# Altium integrated library Actel ProASIC3 nano.IntLib: 200 symbols (part 13 of 16)
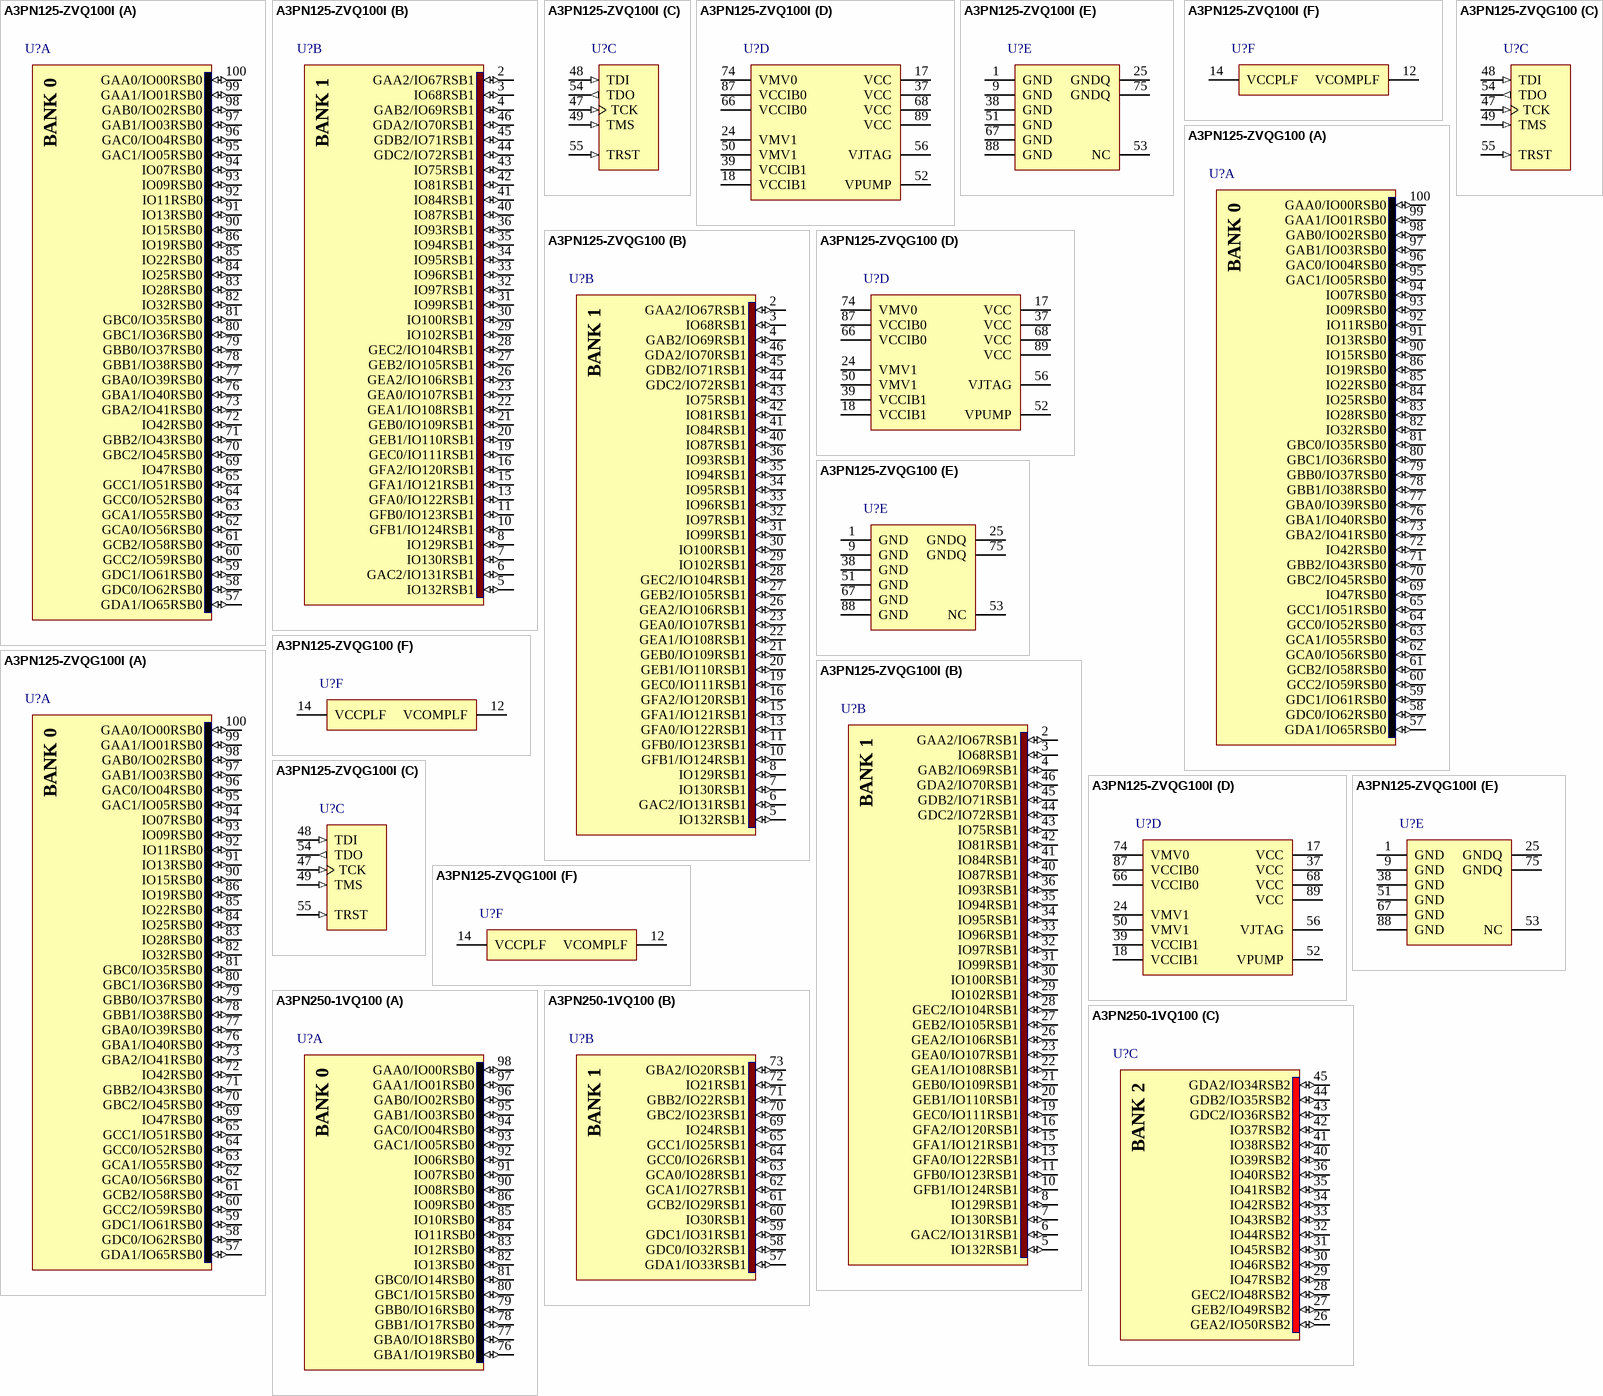
[diagram p61: symbols A3PN125-ZVQ100I to A3PN250-1VQ100]

## A3PN125-ZVQG100I
designator U?
ProASIC3 nano Flash FPGA, 71 User IOs, 125K System Gates, Z Feature Grade, Standard Speed, 100-Pin VQFP, Pb-Free, Industrial Grade; Published: 30-Apr-2009; LatestRevisionDate: 26-Feb-2010; LatestRevisionNote: Updated to datasheet version 0.6 Jan-2010.; DatasheetVersion: v0.6, Jan-2010; PackageVersion: ver11.2, Nov-2009; PackageReference: VQ100; Publisher: Altium Limited; PackageDescription: 100-Pin Plastic Quad Flat Pack (VQ100); Code_JEDEC: MS-026-AED; ComponentLink1Description: ProASIC3 Datasheet; ComponentLink1URL: http://www.actel.com/documents/PA3_nano_DS.pdf; ComponentLink2Description: Package Mechanical Drawings; ComponentLink2URL: http://www.actel.com/documents/PckgMechDrwngs.pdf; ComponentLink3Description: ProASIC3 nano Documents; ComponentLink3URL: http://www.actel.com/products/pa3nano/docs.aspx; ComponentLink4Description: Actel.com Home; ComponentLink4URL: http://www.actel.com/
footprint VQ100_N (Thin QFP, 100-Leads, Body 14x14mm, Pitch 0.5mm, IPC Medium Density)
footprint VQ100_L (Thin QFP, 100-Leads, Body 14x14mm, Pitch 0.5mm, IPC High Density)
footprint VQ100_M (Thin QFP, 100-Leads, Body 14x14mm, Pitch 0.5mm, IPC Low Density)
signal-integrity model A3PN125_VQ100 (ProASIC3 nano)
part A pins: 57 GDA1/IO65RSB0 (io) "Global Input/Output", 58 GDC0/IO62RSB0 (io) "Global Input/Output", 59 GDC1/IO61RSB0 (io) "Global Input/Output", 60 GCC2/IO59RSB0 (io) "Global Input/Output", 61 GCB2/IO58RSB0 (io) "Global Input/Output", 62 GCA0/IO56RSB0 (io) "Global Input/Output", 63 GCA1/IO55RSB0 (io) "Global Input/Output", 64 GCC0/IO52RSB0 (io) "Global Input/Output", 65 GCC1/IO51RSB0 (io) "Global Input/Output", 69 IO47RSB0 (io) "User Input/Output", 70 GBC2/IO45RSB0 (io) "Global Input/Output", 71 GBB2/IO43RSB0 (io) "Global Input/Output", 72 IO42RSB0 (io) "User Input/Output", 73 GBA2/IO41RSB0 (io) "Global Input/Output", 76 GBA1/IO40RSB0 (io) "Global Input/Output", 77 GBA0/IO39RSB0 (io) "Global Input/Output", 78 GBB1/IO38RSB0 (io) "Global Input/Output", 79 GBB0/IO37RSB0 (io) "Global Input/Output", 80 GBC1/IO36RSB0 (io) "Global Input/Output", 81 GBC0/IO35RSB0 (io) "Global Input/Output", 82 IO32RSB0 (io) "User Input/Output", 83 IO28RSB0 (io) "User Input/Output", 84 IO25RSB0 (io) "User Input/Output", 85 IO22RSB0 (io) "User Input/Output", 86 IO19RSB0 (io) "User Input/Output", 90 IO15RSB0 (io) "User Input/Output", 91 IO13RSB0 (io) "User Input/Output", 92 IO11RSB0 (io) "User Input/Output", 93 IO09RSB0 (io) "User Input/Output", 94 IO07RSB0 (io) "User Input/Output", 95 GAC1/IO05RSB0 (io) "Global Input/Output", 96 GAC0/IO04RSB0 (io) "Global Input/Output", 97 GAB1/IO03RSB0 (io) "Global Input/Output", 98 GAB0/IO02RSB0 (io) "Global Input/Output", 99 GAA1/IO01RSB0 (io) "Global Input/Output", 100 GAA0/IO00RSB0 (io) "Global Input/Output"
part B pins: 2 GAA2/IO67RSB1 (io) "Global Input/Output", 3 IO68RSB1 (io) "User Input/Output", 4 GAB2/IO69RSB1 (io) "Global Input/Output", 5 IO132RSB1 (io) "User Input/Output", 6 GAC2/IO131RSB1 (io) "Global Input/Output", 7 IO130RSB1 (io) "User Input/Output", 8 IO129RSB1 (io) "User Input/Output", 10 GFB1/IO124RSB1 (io) "Global Input/Output", 11 GFB0/IO123RSB1 (io) "Global Input/Output", 13 GFA0/IO122RSB1 (io) "Global Input/Output", 15 GFA1/IO121RSB1 (io) "Global Input/Output", 16 GFA2/IO120RSB1 (io) "Global Input/Output", 19 GEC0/IO111RSB1 (io) "Global Input/Output", 20 GEB1/IO110RSB1 (io) "Global Input/Output", 21 GEB0/IO109RSB1 (io) "Global Input/Output", 22 GEA1/IO108RSB1 (io) "Global Input/Output", 23 GEA0/IO107RSB1 (io) "Global Input/Output", 26 GEA2/IO106RSB1 (io) "Global Input/Output", 27 GEB2/IO105RSB1 (io) "Global Input/Output", 28 GEC2/IO104RSB1 (io) "Global Input/Output", 29 IO102RSB1 (io) "User Input/Output", 30 IO100RSB1 (io) "User Input/Output", 31 IO99RSB1 (io) "User Input/Output", 32 IO97RSB1 (io) "User Input/Output", 33 IO96RSB1 (io) "User Input/Output", 34 IO95RSB1 (io) "User Input/Output", 35 IO94RSB1 (io) "User Input/Output", 36 IO93RSB1 (io) "User Input/Output", 40 IO87RSB1 (io) "User Input/Output", 41 IO84RSB1 (io) "User Input/Output", 42 IO81RSB1 (io) "User Input/Output", 43 IO75RSB1 (io) "User Input/Output", 44 GDC2/IO72RSB1 (io) "Global Input/Output", 45 GDB2/IO71RSB1 (io) "Global Input/Output", 46 GDA2/IO70RSB1 (io) "Global Input/Output"
part C pins: 47 TCK (in) "Test Clock", 48 TDI (in) "Test Data Input", 49 TMS (in) "Test Mode Select", 54 TDO (out) "Test Data Output", 55 TRST (in) "Boundary Scan Reset Pin"
part D pins: 17 VCC (power) "Core Supply Voltage", 18 VCCIB1 (power) "I/O Supply Voltage", 24 VMV1 (power) "I/O Supply Voltage (quiet)", 37 VCC (power) "Core Supply Voltage", 39 VCCIB1 (power) "I/O Supply Voltage", 50 VMV1 (power) "I/O Supply Voltage (quiet)", 52 VPUMP (power) "Programming Supply Voltage", 56 VJTAG (power) "JTAG Supply Voltage", 66 VCCIB0 (power) "I/O Supply Voltage", 68 VCC (power) "Core Supply Voltage", 74 VMV0 (power) "I/O Supply Voltage (quiet)", 87 VCCIB0 (power) "I/O Supply Voltage", 89 VCC (power) "Core Supply Voltage"
part E pins: 1 GND (power) "Ground", 9 GND (power) "Ground", 25 GNDQ (power) "Ground (Quiet)", 38 GND (power) "Ground", 51 GND (power) "Ground", 53 NC "No Connect", 67 GND (power) "Ground", 75 GNDQ (power) "Ground (Quiet)", 88 GND (power) "Ground"
part F pins: 12 VCOMPLF (power) "PLL Ground", 14 VCCPLF (power) "PLL Supply Voltage"
part A text: BANK 0
part B text: BANK 1

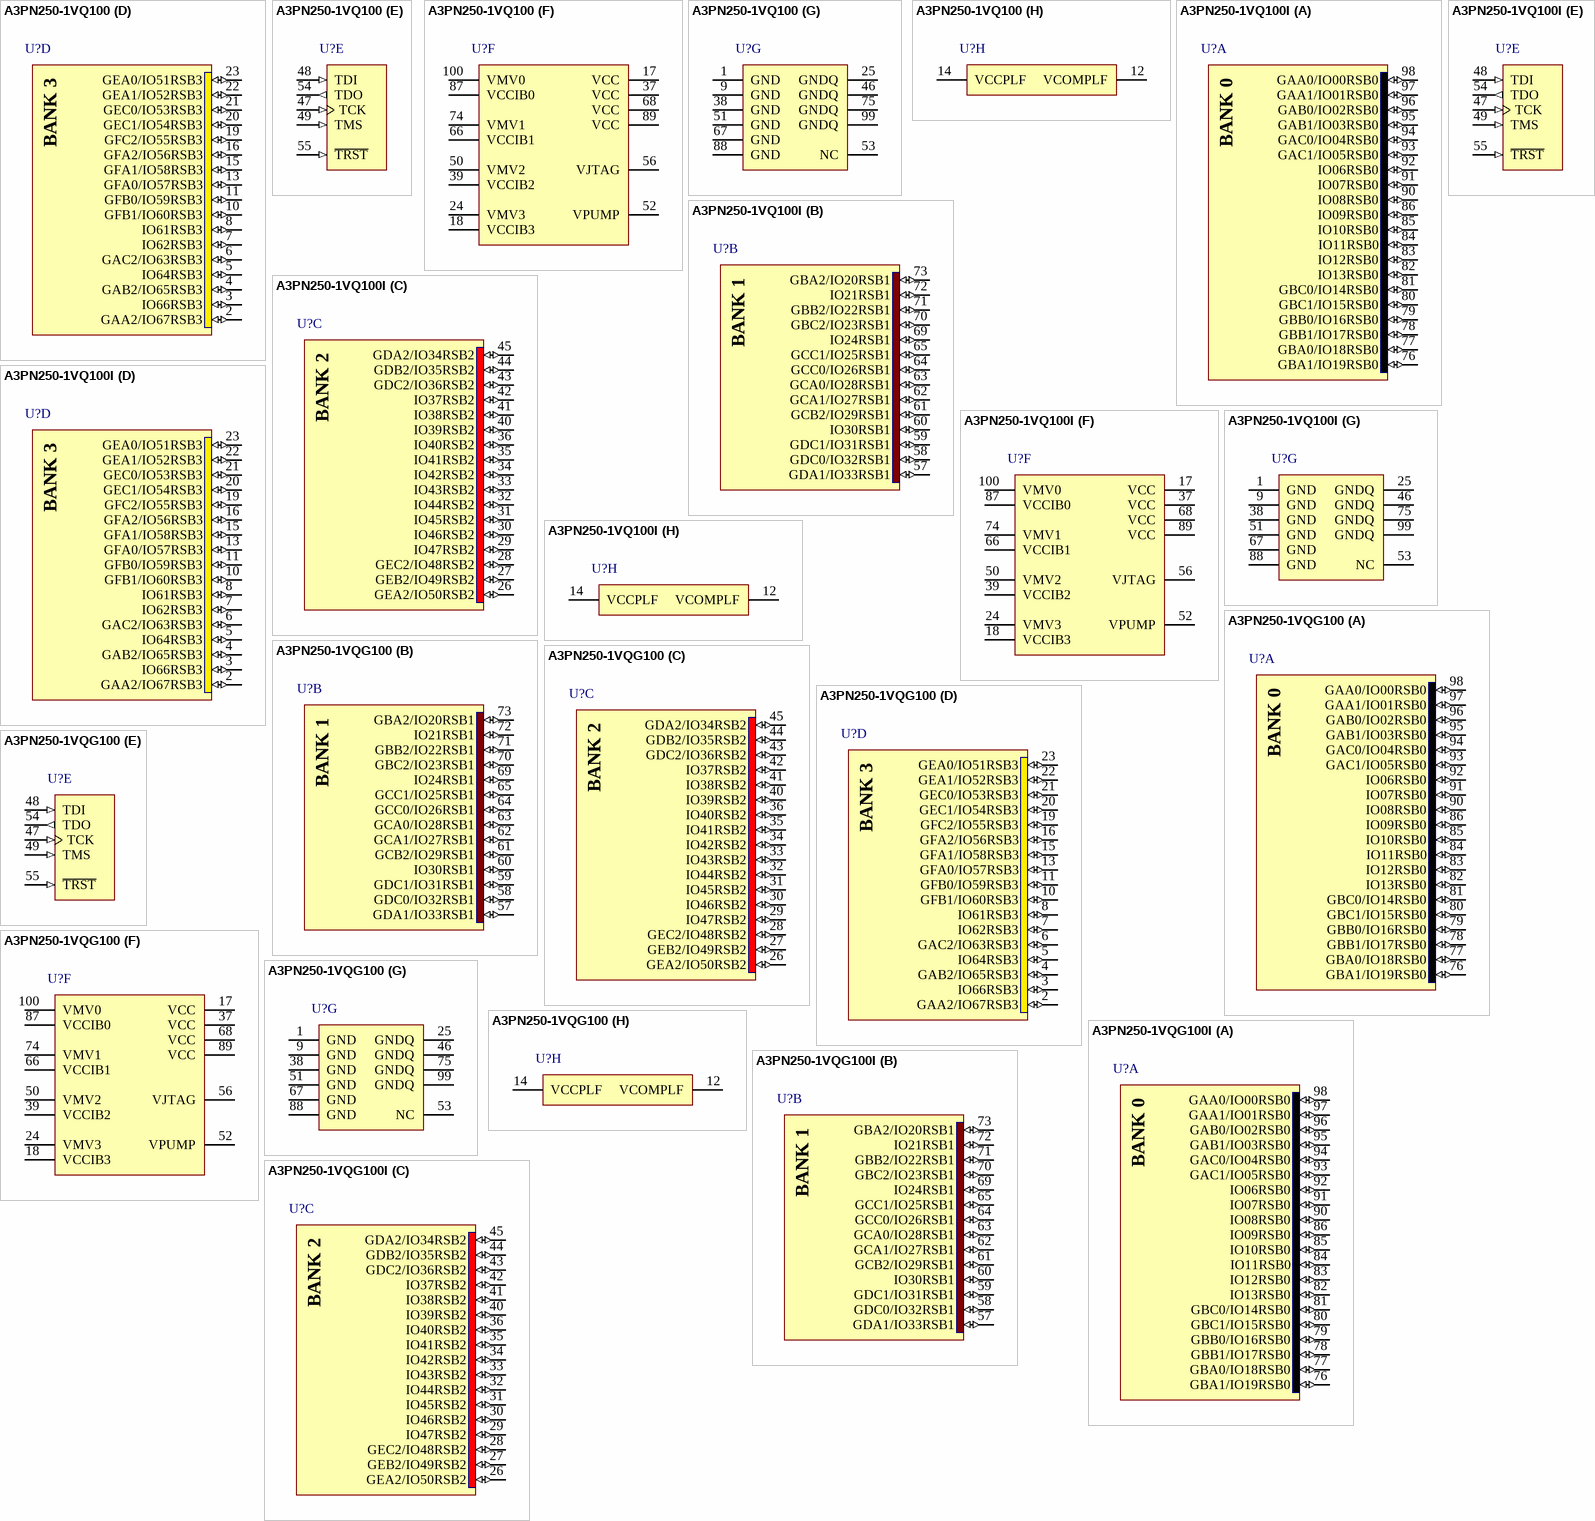
[diagram p40: symbols A3PN250-1VQ100 to A3PN250-1VQG100I]

## A3PN250-1VQ100
designator U?
ProASIC3 nano Flash FPGA, 68 User IOs, 250K System Gates, Speed 15% above Standard, 100-Pin VQFP, Commerical Grade; Published: 30-Apr-2009; LatestRevisionDate: 26-Feb-2010; LatestRevisionNote: Updated to datasheet version 0.6 Jan-2010.; DatasheetVersion: v0.6, Jan-2010; PackageVersion: ver11.2, Nov-2009; PackageReference: VQ100; Publisher: Altium Limited; PackageDescription: 100-Pin Plastic Quad Flat Pack (VQ100); Code_JEDEC: MS-026-AED; ComponentLink1Description: ProASIC3 Datasheet; ComponentLink1URL: http://www.actel.com/documents/PA3_nano_DS.pdf; ComponentLink2Description: Package Mechanical Drawings; ComponentLink2URL: http://www.actel.com/documents/PckgMechDrwngs.pdf; ComponentLink3Description: ProASIC3 nano Documents; ComponentLink3URL: http://www.actel.com/products/pa3nano/docs.aspx; ComponentLink4Description: Actel.com Home; ComponentLink4URL: http://www.actel.com/
footprint VQ100_N (Thin QFP, 100-Leads, Body 14x14mm, Pitch 0.5mm, IPC Medium Density)
footprint VQ100_L (Thin QFP, 100-Leads, Body 14x14mm, Pitch 0.5mm, IPC High Density)
footprint VQ100_M (Thin QFP, 100-Leads, Body 14x14mm, Pitch 0.5mm, IPC Low Density)
signal-integrity model A3PN250_VQ100 (ProASIC3 nano)
part A pins: 76 GBA1/IO19RSB0 (io) "Global Input/Output", 77 GBA0/IO18RSB0 (io) "Global Input/Output", 78 GBB1/IO17RSB0 (io) "Global Input/Output", 79 GBB0/IO16RSB0 (io) "Global Input/Output", 80 GBC1/IO15RSB0 (io) "Global Input/Output", 81 GBC0/IO14RSB0 (io) "Global Input/Output", 82 IO13RSB0 (io) "User Input/Output", 83 IO12RSB0 (io) "User Input/Output", 84 IO11RSB0 (io) "User Input/Output", 85 IO10RSB0 (io) "User Input/Output", 86 IO09RSB0 (io) "User Input/Output", 90 IO08RSB0 (io) "User Input/Output", 91 IO07RSB0 (io) "User Input/Output", 92 IO06RSB0 (io) "User Input/Output", 93 GAC1/IO05RSB0 (io) "Global Input/Output", 94 GAC0/IO04RSB0 (io) "Global Input/Output", 95 GAB1/IO03RSB0 (io) "Global Input/Output", 96 GAB0/IO02RSB0 (io) "Global Input/Output", 97 GAA1/IO01RSB0 (io) "Global Input/Output", 98 GAA0/IO00RSB0 (io) "Global Input/Output"
part B pins: 57 GDA1/IO33RSB1 (io) "Global Input/Output", 58 GDC0/IO32RSB1 (io) "Global Input/Output", 59 GDC1/IO31RSB1 (io) "Global Input/Output", 60 IO30RSB1 (io) "User Input/Output", 61 GCB2/IO29RSB1 (io) "Global Input/Output", 62 GCA1/IO27RSB1 (io) "Global Input/Output", 63 GCA0/IO28RSB1 (io) "Global Input/Output", 64 GCC0/IO26RSB1 (io) "Global Input/Output", 65 GCC1/IO25RSB1 (io) "Global Input/Output", 69 IO24RSB1 (io) "User Input/Output", 70 GBC2/IO23RSB1 (io) "Global Input/Output", 71 GBB2/IO22RSB1 (io) "Global Input/Output", 72 IO21RSB1 (io) "User Input/Output", 73 GBA2/IO20RSB1 (io) "Global Input/Output"
part C pins: 26 GEA2/IO50RSB2 (io) "Global Input/Output", 27 GEB2/IO49RSB2 (io) "Global Input/Output", 28 GEC2/IO48RSB2 (io) "Global Input/Output", 29 IO47RSB2 (io) "User Input/Output", 30 IO46RSB2 (io) "User Input/Output", 31 IO45RSB2 (io) "User Input/Output", 32 IO44RSB2 (io) "User Input/Output", 33 IO43RSB2 (io) "User Input/Output", 34 IO42RSB2 (io) "User Input/Output", 35 IO41RSB2 (io) "User Input/Output", 36 IO40RSB2 (io) "User Input/Output", 40 IO39RSB2 (io) "User Input/Output", 41 IO38RSB2 (io) "User Input/Output", 42 IO37RSB2 (io) "User Input/Output", 43 GDC2/IO36RSB2 (io) "Global Input/Output", 44 GDB2/IO35RSB2 (io) "Global Input/Output", 45 GDA2/IO34RSB2 (io) "Global Input/Output"
part D pins: 2 GAA2/IO67RSB3 (io) "Global Input/Output", 3 IO66RSB3 (io) "User Input/Output", 4 GAB2/IO65RSB3 (io) "Global Input/Output", 5 IO64RSB3 (io) "User Input/Output", 6 GAC2/IO63RSB3 (io) "Global Input/Output", 7 IO62RSB3 (io) "User Input/Output", 8 IO61RSB3 (io) "User Input/Output", 10 GFB1/IO60RSB3 (io) "Global Input/Output", 11 GFB0/IO59RSB3 (io) "Global Input/Output", 13 GFA0/IO57RSB3 (io) "Global Input/Output", 15 GFA1/IO58RSB3 (io) "Global Input/Output", 16 GFA2/IO56RSB3 (io) "Global Input/Output", 19 GFC2/IO55RSB3 (io) "Global Input/Output", 20 GEC1/IO54RSB3 (io) "Global Input/Output", 21 GEC0/IO53RSB3 (io) "Global Input/Output", 22 GEA1/IO52RSB3 (io) "Global Input/Output", 23 GEA0/IO51RSB3 (io) "Global Input/Output"
part E pins: 47 TCK (in) "Test Clock", 48 TDI (in) "Test Data Input", 49 TMS (in) "Test Mode Select", 54 TDO (out) "Test Data Output", 55 ~{TRST} (in) "Boundary Scan Reset Pin"
part F pins: 17 VCC (power) "Core Supply Voltage", 18 VCCIB3 (power) "I/O Supply Voltage", 24 VMV3 (power) "I/O Supply Voltage (quiet)", 37 VCC (power) "Core Supply Voltage", 39 VCCIB2 (power) "I/O Supply Voltage", 50 VMV2 (power) "I/O Supply Voltage (quiet)", 52 VPUMP (power) "Programming Supply Voltage", 56 VJTAG (power) "JTAG Supply Voltage", 66 VCCIB1 (power) "I/O Supply Voltage", 68 VCC (power) "Core Supply Voltage", 74 VMV1 (power) "I/O Supply Voltage (quiet)", 87 VCCIB0 (power) "I/O Supply Voltage", 89 VCC (power) "Core Supply Voltage", 100 VMV0 (power) "I/O Supply Voltage (quiet)"
part G pins: 1 GND (power) "Ground", 9 GND (power) "Ground", 25 GNDQ (power) "Ground (Quiet)", 38 GND (power) "Ground", 46 GNDQ (power) "Ground (Quiet)", 51 GND (power) "Ground", 53 NC "No Connect", 67 GND (power) "Ground", 75 GNDQ (power) "Ground (Quiet)", 88 GND (power) "Ground", 99 GNDQ (power) "Ground (Quiet)"
part H pins: 12 VCOMPLF (power) "PLL Ground", 14 VCCPLF (power) "PLL Supply Voltage"
part A text: BANK 0
part B text: BANK 1
part C text: BANK 2
part D text: BANK 3

## A3PN250-1VQ100I
designator U?
ProASIC3 nano Flash FPGA, 68 User IOs, 250K System Gates, Speed 15% above Standard, 100-Pin VQFP, Industrial Grade; Published: 30-Apr-2009; LatestRevisionDate: 26-Feb-2010; LatestRevisionNote: Updated to datasheet version 0.6 Jan-2010.; DatasheetVersion: v0.6, Jan-2010; PackageVersion: ver11.2, Nov-2009; PackageReference: VQ100; Publisher: Altium Limited; PackageDescription: 100-Pin Plastic Quad Flat Pack (VQ100); Code_JEDEC: MS-026-AED; ComponentLink1Description: ProASIC3 Datasheet; ComponentLink1URL: http://www.actel.com/documents/PA3_nano_DS.pdf; ComponentLink2Description: Package Mechanical Drawings; ComponentLink2URL: http://www.actel.com/documents/PckgMechDrwngs.pdf; ComponentLink3Description: ProASIC3 nano Documents; ComponentLink3URL: http://www.actel.com/products/pa3nano/docs.aspx; ComponentLink4Description: Actel.com Home; ComponentLink4URL: http://www.actel.com/
footprint VQ100_N (Thin QFP, 100-Leads, Body 14x14mm, Pitch 0.5mm, IPC Medium Density)
footprint VQ100_L (Thin QFP, 100-Leads, Body 14x14mm, Pitch 0.5mm, IPC High Density)
footprint VQ100_M (Thin QFP, 100-Leads, Body 14x14mm, Pitch 0.5mm, IPC Low Density)
signal-integrity model A3PN250_VQ100 (ProASIC3 nano)
part A pins: 76 GBA1/IO19RSB0 (io) "Global Input/Output", 77 GBA0/IO18RSB0 (io) "Global Input/Output", 78 GBB1/IO17RSB0 (io) "Global Input/Output", 79 GBB0/IO16RSB0 (io) "Global Input/Output", 80 GBC1/IO15RSB0 (io) "Global Input/Output", 81 GBC0/IO14RSB0 (io) "Global Input/Output", 82 IO13RSB0 (io) "User Input/Output", 83 IO12RSB0 (io) "User Input/Output", 84 IO11RSB0 (io) "User Input/Output", 85 IO10RSB0 (io) "User Input/Output", 86 IO09RSB0 (io) "User Input/Output", 90 IO08RSB0 (io) "User Input/Output", 91 IO07RSB0 (io) "User Input/Output", 92 IO06RSB0 (io) "User Input/Output", 93 GAC1/IO05RSB0 (io) "Global Input/Output", 94 GAC0/IO04RSB0 (io) "Global Input/Output", 95 GAB1/IO03RSB0 (io) "Global Input/Output", 96 GAB0/IO02RSB0 (io) "Global Input/Output", 97 GAA1/IO01RSB0 (io) "Global Input/Output", 98 GAA0/IO00RSB0 (io) "Global Input/Output"
part B pins: 57 GDA1/IO33RSB1 (io) "Global Input/Output", 58 GDC0/IO32RSB1 (io) "Global Input/Output", 59 GDC1/IO31RSB1 (io) "Global Input/Output", 60 IO30RSB1 (io) "User Input/Output", 61 GCB2/IO29RSB1 (io) "Global Input/Output", 62 GCA1/IO27RSB1 (io) "Global Input/Output", 63 GCA0/IO28RSB1 (io) "Global Input/Output", 64 GCC0/IO26RSB1 (io) "Global Input/Output", 65 GCC1/IO25RSB1 (io) "Global Input/Output", 69 IO24RSB1 (io) "User Input/Output", 70 GBC2/IO23RSB1 (io) "Global Input/Output", 71 GBB2/IO22RSB1 (io) "Global Input/Output", 72 IO21RSB1 (io) "User Input/Output", 73 GBA2/IO20RSB1 (io) "Global Input/Output"
part C pins: 26 GEA2/IO50RSB2 (io) "Global Input/Output", 27 GEB2/IO49RSB2 (io) "Global Input/Output", 28 GEC2/IO48RSB2 (io) "Global Input/Output", 29 IO47RSB2 (io) "User Input/Output", 30 IO46RSB2 (io) "User Input/Output", 31 IO45RSB2 (io) "User Input/Output", 32 IO44RSB2 (io) "User Input/Output", 33 IO43RSB2 (io) "User Input/Output", 34 IO42RSB2 (io) "User Input/Output", 35 IO41RSB2 (io) "User Input/Output", 36 IO40RSB2 (io) "User Input/Output", 40 IO39RSB2 (io) "User Input/Output", 41 IO38RSB2 (io) "User Input/Output", 42 IO37RSB2 (io) "User Input/Output", 43 GDC2/IO36RSB2 (io) "Global Input/Output", 44 GDB2/IO35RSB2 (io) "Global Input/Output", 45 GDA2/IO34RSB2 (io) "Global Input/Output"
part D pins: 2 GAA2/IO67RSB3 (io) "Global Input/Output", 3 IO66RSB3 (io) "User Input/Output", 4 GAB2/IO65RSB3 (io) "Global Input/Output", 5 IO64RSB3 (io) "User Input/Output", 6 GAC2/IO63RSB3 (io) "Global Input/Output", 7 IO62RSB3 (io) "User Input/Output", 8 IO61RSB3 (io) "User Input/Output", 10 GFB1/IO60RSB3 (io) "Global Input/Output", 11 GFB0/IO59RSB3 (io) "Global Input/Output", 13 GFA0/IO57RSB3 (io) "Global Input/Output", 15 GFA1/IO58RSB3 (io) "Global Input/Output", 16 GFA2/IO56RSB3 (io) "Global Input/Output", 19 GFC2/IO55RSB3 (io) "Global Input/Output", 20 GEC1/IO54RSB3 (io) "Global Input/Output", 21 GEC0/IO53RSB3 (io) "Global Input/Output", 22 GEA1/IO52RSB3 (io) "Global Input/Output", 23 GEA0/IO51RSB3 (io) "Global Input/Output"
part E pins: 47 TCK (in) "Test Clock", 48 TDI (in) "Test Data Input", 49 TMS (in) "Test Mode Select", 54 TDO (out) "Test Data Output", 55 ~{TRST} (in) "Boundary Scan Reset Pin"
part F pins: 17 VCC (power) "Core Supply Voltage", 18 VCCIB3 (power) "I/O Supply Voltage", 24 VMV3 (power) "I/O Supply Voltage (quiet)", 37 VCC (power) "Core Supply Voltage", 39 VCCIB2 (power) "I/O Supply Voltage", 50 VMV2 (power) "I/O Supply Voltage (quiet)", 52 VPUMP (power) "Programming Supply Voltage", 56 VJTAG (power) "JTAG Supply Voltage", 66 VCCIB1 (power) "I/O Supply Voltage", 68 VCC (power) "Core Supply Voltage", 74 VMV1 (power) "I/O Supply Voltage (quiet)", 87 VCCIB0 (power) "I/O Supply Voltage", 89 VCC (power) "Core Supply Voltage", 100 VMV0 (power) "I/O Supply Voltage (quiet)"
part G pins: 1 GND (power) "Ground", 9 GND (power) "Ground", 25 GNDQ (power) "Ground (Quiet)", 38 GND (power) "Ground", 46 GNDQ (power) "Ground (Quiet)", 51 GND (power) "Ground", 53 NC "No Connect", 67 GND (power) "Ground", 75 GNDQ (power) "Ground (Quiet)", 88 GND (power) "Ground", 99 GNDQ (power) "Ground (Quiet)"
part H pins: 12 VCOMPLF (power) "PLL Ground", 14 VCCPLF (power) "PLL Supply Voltage"
part A text: BANK 0
part B text: BANK 1
part C text: BANK 2
part D text: BANK 3

## A3PN250-1VQG100
designator U?
ProASIC3 nano Flash FPGA, 68 User IOs, 250K System Gates, Speed 15% above Standard, 100-Pin VQFP, Pb-Free, Commerical Grade; Published: 30-Apr-2009; LatestRevisionDate: 26-Feb-2010; LatestRevisionNote: Updated to datasheet version 0.6 Jan-2010.; DatasheetVersion: v0.6, Jan-2010; PackageVersion: ver11.2, Nov-2009; PackageReference: VQ100; Publisher: Altium Limited; PackageDescription: 100-Pin Plastic Quad Flat Pack (VQ100); Code_JEDEC: MS-026-AED; ComponentLink1Description: ProASIC3 Datasheet; ComponentLink1URL: http://www.actel.com/documents/PA3_nano_DS.pdf; ComponentLink2Description: Package Mechanical Drawings; ComponentLink2URL: http://www.actel.com/documents/PckgMechDrwngs.pdf; ComponentLink3Description: ProASIC3 nano Documents; ComponentLink3URL: http://www.actel.com/products/pa3nano/docs.aspx; ComponentLink4Description: Actel.com Home; ComponentLink4URL: http://www.actel.com/
footprint VQ100_N (Thin QFP, 100-Leads, Body 14x14mm, Pitch 0.5mm, IPC Medium Density)
footprint VQ100_L (Thin QFP, 100-Leads, Body 14x14mm, Pitch 0.5mm, IPC High Density)
footprint VQ100_M (Thin QFP, 100-Leads, Body 14x14mm, Pitch 0.5mm, IPC Low Density)
signal-integrity model A3PN250_VQ100 (ProASIC3 nano)
part A pins: 76 GBA1/IO19RSB0 (io) "Global Input/Output", 77 GBA0/IO18RSB0 (io) "Global Input/Output", 78 GBB1/IO17RSB0 (io) "Global Input/Output", 79 GBB0/IO16RSB0 (io) "Global Input/Output", 80 GBC1/IO15RSB0 (io) "Global Input/Output", 81 GBC0/IO14RSB0 (io) "Global Input/Output", 82 IO13RSB0 (io) "User Input/Output", 83 IO12RSB0 (io) "User Input/Output", 84 IO11RSB0 (io) "User Input/Output", 85 IO10RSB0 (io) "User Input/Output", 86 IO09RSB0 (io) "User Input/Output", 90 IO08RSB0 (io) "User Input/Output", 91 IO07RSB0 (io) "User Input/Output", 92 IO06RSB0 (io) "User Input/Output", 93 GAC1/IO05RSB0 (io) "Global Input/Output", 94 GAC0/IO04RSB0 (io) "Global Input/Output", 95 GAB1/IO03RSB0 (io) "Global Input/Output", 96 GAB0/IO02RSB0 (io) "Global Input/Output", 97 GAA1/IO01RSB0 (io) "Global Input/Output", 98 GAA0/IO00RSB0 (io) "Global Input/Output"
part B pins: 57 GDA1/IO33RSB1 (io) "Global Input/Output", 58 GDC0/IO32RSB1 (io) "Global Input/Output", 59 GDC1/IO31RSB1 (io) "Global Input/Output", 60 IO30RSB1 (io) "User Input/Output", 61 GCB2/IO29RSB1 (io) "Global Input/Output", 62 GCA1/IO27RSB1 (io) "Global Input/Output", 63 GCA0/IO28RSB1 (io) "Global Input/Output", 64 GCC0/IO26RSB1 (io) "Global Input/Output", 65 GCC1/IO25RSB1 (io) "Global Input/Output", 69 IO24RSB1 (io) "User Input/Output", 70 GBC2/IO23RSB1 (io) "Global Input/Output", 71 GBB2/IO22RSB1 (io) "Global Input/Output", 72 IO21RSB1 (io) "User Input/Output", 73 GBA2/IO20RSB1 (io) "Global Input/Output"
part C pins: 26 GEA2/IO50RSB2 (io) "Global Input/Output", 27 GEB2/IO49RSB2 (io) "Global Input/Output", 28 GEC2/IO48RSB2 (io) "Global Input/Output", 29 IO47RSB2 (io) "User Input/Output", 30 IO46RSB2 (io) "User Input/Output", 31 IO45RSB2 (io) "User Input/Output", 32 IO44RSB2 (io) "User Input/Output", 33 IO43RSB2 (io) "User Input/Output", 34 IO42RSB2 (io) "User Input/Output", 35 IO41RSB2 (io) "User Input/Output", 36 IO40RSB2 (io) "User Input/Output", 40 IO39RSB2 (io) "User Input/Output", 41 IO38RSB2 (io) "User Input/Output", 42 IO37RSB2 (io) "User Input/Output", 43 GDC2/IO36RSB2 (io) "Global Input/Output", 44 GDB2/IO35RSB2 (io) "Global Input/Output", 45 GDA2/IO34RSB2 (io) "Global Input/Output"
part D pins: 2 GAA2/IO67RSB3 (io) "Global Input/Output", 3 IO66RSB3 (io) "User Input/Output", 4 GAB2/IO65RSB3 (io) "Global Input/Output", 5 IO64RSB3 (io) "User Input/Output", 6 GAC2/IO63RSB3 (io) "Global Input/Output", 7 IO62RSB3 (io) "User Input/Output", 8 IO61RSB3 (io) "User Input/Output", 10 GFB1/IO60RSB3 (io) "Global Input/Output", 11 GFB0/IO59RSB3 (io) "Global Input/Output", 13 GFA0/IO57RSB3 (io) "Global Input/Output", 15 GFA1/IO58RSB3 (io) "Global Input/Output", 16 GFA2/IO56RSB3 (io) "Global Input/Output", 19 GFC2/IO55RSB3 (io) "Global Input/Output", 20 GEC1/IO54RSB3 (io) "Global Input/Output", 21 GEC0/IO53RSB3 (io) "Global Input/Output", 22 GEA1/IO52RSB3 (io) "Global Input/Output", 23 GEA0/IO51RSB3 (io) "Global Input/Output"
part E pins: 47 TCK (in) "Test Clock", 48 TDI (in) "Test Data Input", 49 TMS (in) "Test Mode Select", 54 TDO (out) "Test Data Output", 55 ~{TRST} (in) "Boundary Scan Reset Pin"
part F pins: 17 VCC (power) "Core Supply Voltage", 18 VCCIB3 (power) "I/O Supply Voltage", 24 VMV3 (power) "I/O Supply Voltage (quiet)", 37 VCC (power) "Core Supply Voltage", 39 VCCIB2 (power) "I/O Supply Voltage", 50 VMV2 (power) "I/O Supply Voltage (quiet)", 52 VPUMP (power) "Programming Supply Voltage", 56 VJTAG (power) "JTAG Supply Voltage", 66 VCCIB1 (power) "I/O Supply Voltage", 68 VCC (power) "Core Supply Voltage", 74 VMV1 (power) "I/O Supply Voltage (quiet)", 87 VCCIB0 (power) "I/O Supply Voltage", 89 VCC (power) "Core Supply Voltage", 100 VMV0 (power) "I/O Supply Voltage (quiet)"
part G pins: 1 GND (power) "Ground", 9 GND (power) "Ground", 25 GNDQ (power) "Ground (Quiet)", 38 GND (power) "Ground", 46 GNDQ (power) "Ground (Quiet)", 51 GND (power) "Ground", 53 NC "No Connect", 67 GND (power) "Ground", 75 GNDQ (power) "Ground (Quiet)", 88 GND (power) "Ground", 99 GNDQ (power) "Ground (Quiet)"
part H pins: 12 VCOMPLF (power) "PLL Ground", 14 VCCPLF (power) "PLL Supply Voltage"
part A text: BANK 0
part B text: BANK 1
part C text: BANK 2
part D text: BANK 3

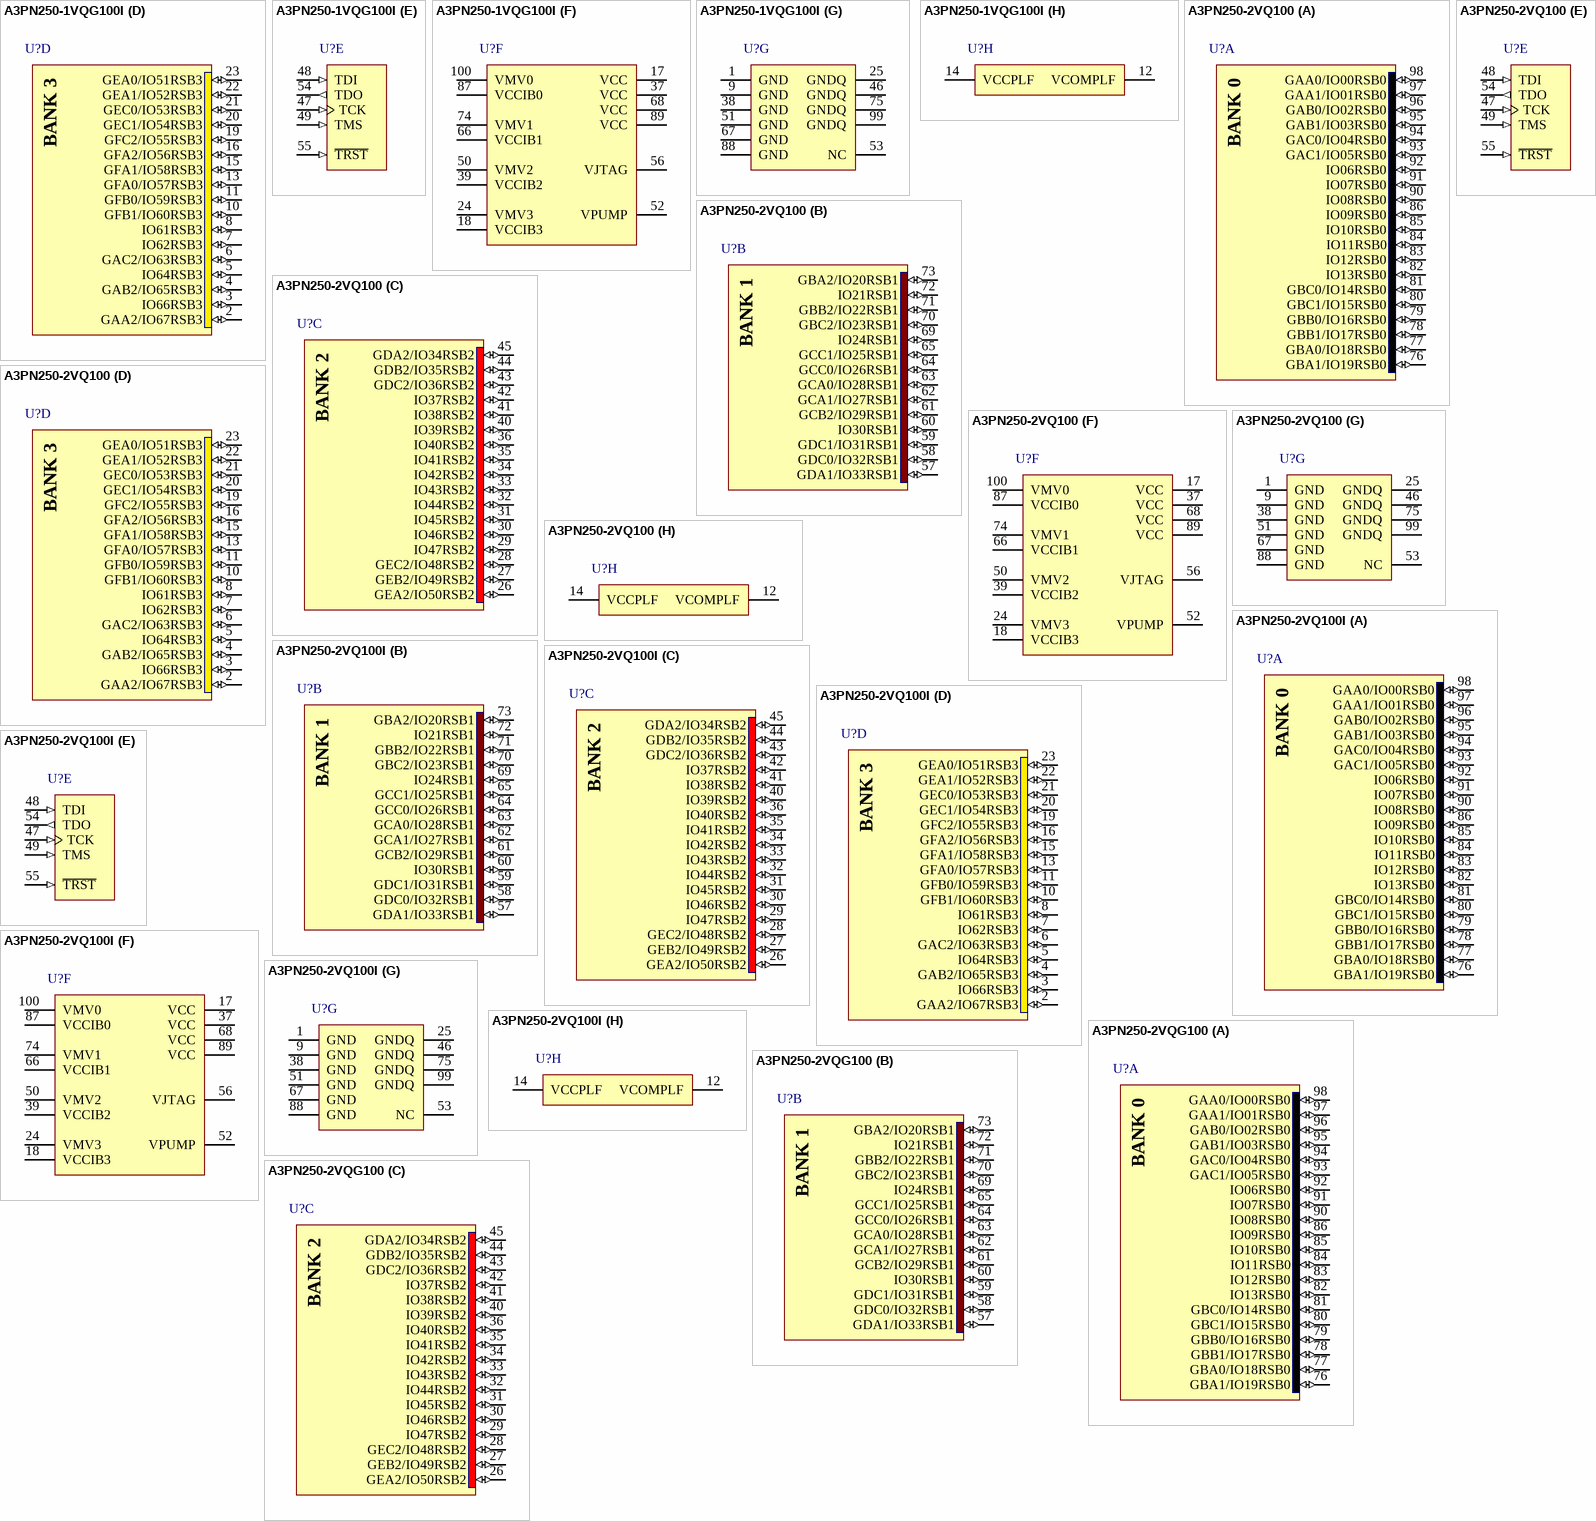
[diagram p41: symbols A3PN250-1VQG100I to A3PN250-2VQG100]

## A3PN250-1VQG100I
designator U?
ProASIC3 nano Flash FPGA, 68 User IOs, 250K System Gates, Speed 15% above Standard, 100-Pin VQFP, Pb-Free, Industrial Grade; Published: 30-Apr-2009; LatestRevisionDate: 26-Feb-2010; LatestRevisionNote: Updated to datasheet version 0.6 Jan-2010.; DatasheetVersion: v0.6, Jan-2010; PackageVersion: ver11.2, Nov-2009; PackageReference: VQ100; Publisher: Altium Limited; PackageDescription: 100-Pin Plastic Quad Flat Pack (VQ100); Code_JEDEC: MS-026-AED; ComponentLink1Description: ProASIC3 Datasheet; ComponentLink1URL: http://www.actel.com/documents/PA3_nano_DS.pdf; ComponentLink2Description: Package Mechanical Drawings; ComponentLink2URL: http://www.actel.com/documents/PckgMechDrwngs.pdf; ComponentLink3Description: ProASIC3 nano Documents; ComponentLink3URL: http://www.actel.com/products/pa3nano/docs.aspx; ComponentLink4Description: Actel.com Home; ComponentLink4URL: http://www.actel.com/
footprint VQ100_N (Thin QFP, 100-Leads, Body 14x14mm, Pitch 0.5mm, IPC Medium Density)
footprint VQ100_L (Thin QFP, 100-Leads, Body 14x14mm, Pitch 0.5mm, IPC High Density)
footprint VQ100_M (Thin QFP, 100-Leads, Body 14x14mm, Pitch 0.5mm, IPC Low Density)
signal-integrity model A3PN250_VQ100 (ProASIC3 nano)
part A pins: 76 GBA1/IO19RSB0 (io) "Global Input/Output", 77 GBA0/IO18RSB0 (io) "Global Input/Output", 78 GBB1/IO17RSB0 (io) "Global Input/Output", 79 GBB0/IO16RSB0 (io) "Global Input/Output", 80 GBC1/IO15RSB0 (io) "Global Input/Output", 81 GBC0/IO14RSB0 (io) "Global Input/Output", 82 IO13RSB0 (io) "User Input/Output", 83 IO12RSB0 (io) "User Input/Output", 84 IO11RSB0 (io) "User Input/Output", 85 IO10RSB0 (io) "User Input/Output", 86 IO09RSB0 (io) "User Input/Output", 90 IO08RSB0 (io) "User Input/Output", 91 IO07RSB0 (io) "User Input/Output", 92 IO06RSB0 (io) "User Input/Output", 93 GAC1/IO05RSB0 (io) "Global Input/Output", 94 GAC0/IO04RSB0 (io) "Global Input/Output", 95 GAB1/IO03RSB0 (io) "Global Input/Output", 96 GAB0/IO02RSB0 (io) "Global Input/Output", 97 GAA1/IO01RSB0 (io) "Global Input/Output", 98 GAA0/IO00RSB0 (io) "Global Input/Output"
part B pins: 57 GDA1/IO33RSB1 (io) "Global Input/Output", 58 GDC0/IO32RSB1 (io) "Global Input/Output", 59 GDC1/IO31RSB1 (io) "Global Input/Output", 60 IO30RSB1 (io) "User Input/Output", 61 GCB2/IO29RSB1 (io) "Global Input/Output", 62 GCA1/IO27RSB1 (io) "Global Input/Output", 63 GCA0/IO28RSB1 (io) "Global Input/Output", 64 GCC0/IO26RSB1 (io) "Global Input/Output", 65 GCC1/IO25RSB1 (io) "Global Input/Output", 69 IO24RSB1 (io) "User Input/Output", 70 GBC2/IO23RSB1 (io) "Global Input/Output", 71 GBB2/IO22RSB1 (io) "Global Input/Output", 72 IO21RSB1 (io) "User Input/Output", 73 GBA2/IO20RSB1 (io) "Global Input/Output"
part C pins: 26 GEA2/IO50RSB2 (io) "Global Input/Output", 27 GEB2/IO49RSB2 (io) "Global Input/Output", 28 GEC2/IO48RSB2 (io) "Global Input/Output", 29 IO47RSB2 (io) "User Input/Output", 30 IO46RSB2 (io) "User Input/Output", 31 IO45RSB2 (io) "User Input/Output", 32 IO44RSB2 (io) "User Input/Output", 33 IO43RSB2 (io) "User Input/Output", 34 IO42RSB2 (io) "User Input/Output", 35 IO41RSB2 (io) "User Input/Output", 36 IO40RSB2 (io) "User Input/Output", 40 IO39RSB2 (io) "User Input/Output", 41 IO38RSB2 (io) "User Input/Output", 42 IO37RSB2 (io) "User Input/Output", 43 GDC2/IO36RSB2 (io) "Global Input/Output", 44 GDB2/IO35RSB2 (io) "Global Input/Output", 45 GDA2/IO34RSB2 (io) "Global Input/Output"
part D pins: 2 GAA2/IO67RSB3 (io) "Global Input/Output", 3 IO66RSB3 (io) "User Input/Output", 4 GAB2/IO65RSB3 (io) "Global Input/Output", 5 IO64RSB3 (io) "User Input/Output", 6 GAC2/IO63RSB3 (io) "Global Input/Output", 7 IO62RSB3 (io) "User Input/Output", 8 IO61RSB3 (io) "User Input/Output", 10 GFB1/IO60RSB3 (io) "Global Input/Output", 11 GFB0/IO59RSB3 (io) "Global Input/Output", 13 GFA0/IO57RSB3 (io) "Global Input/Output", 15 GFA1/IO58RSB3 (io) "Global Input/Output", 16 GFA2/IO56RSB3 (io) "Global Input/Output", 19 GFC2/IO55RSB3 (io) "Global Input/Output", 20 GEC1/IO54RSB3 (io) "Global Input/Output", 21 GEC0/IO53RSB3 (io) "Global Input/Output", 22 GEA1/IO52RSB3 (io) "Global Input/Output", 23 GEA0/IO51RSB3 (io) "Global Input/Output"
part E pins: 47 TCK (in) "Test Clock", 48 TDI (in) "Test Data Input", 49 TMS (in) "Test Mode Select", 54 TDO (out) "Test Data Output", 55 ~{TRST} (in) "Boundary Scan Reset Pin"
part F pins: 17 VCC (power) "Core Supply Voltage", 18 VCCIB3 (power) "I/O Supply Voltage", 24 VMV3 (power) "I/O Supply Voltage (quiet)", 37 VCC (power) "Core Supply Voltage", 39 VCCIB2 (power) "I/O Supply Voltage", 50 VMV2 (power) "I/O Supply Voltage (quiet)", 52 VPUMP (power) "Programming Supply Voltage", 56 VJTAG (power) "JTAG Supply Voltage", 66 VCCIB1 (power) "I/O Supply Voltage", 68 VCC (power) "Core Supply Voltage", 74 VMV1 (power) "I/O Supply Voltage (quiet)", 87 VCCIB0 (power) "I/O Supply Voltage", 89 VCC (power) "Core Supply Voltage", 100 VMV0 (power) "I/O Supply Voltage (quiet)"
part G pins: 1 GND (power) "Ground", 9 GND (power) "Ground", 25 GNDQ (power) "Ground (Quiet)", 38 GND (power) "Ground", 46 GNDQ (power) "Ground (Quiet)", 51 GND (power) "Ground", 53 NC "No Connect", 67 GND (power) "Ground", 75 GNDQ (power) "Ground (Quiet)", 88 GND (power) "Ground", 99 GNDQ (power) "Ground (Quiet)"
part H pins: 12 VCOMPLF (power) "PLL Ground", 14 VCCPLF (power) "PLL Supply Voltage"
part A text: BANK 0
part B text: BANK 1
part C text: BANK 2
part D text: BANK 3

## A3PN250-2VQ100
designator U?
ProASIC3 nano Flash FPGA, 68 User IOs, 250K System Gates, Speed 25% above Standard, 100-Pin VQFP, Commerical Grade; Published: 30-Apr-2009; LatestRevisionDate: 26-Feb-2010; LatestRevisionNote: Updated to datasheet version 0.6 Jan-2010.; DatasheetVersion: v0.6, Jan-2010; PackageVersion: ver11.2, Nov-2009; PackageReference: VQ100; Publisher: Altium Limited; PackageDescription: 100-Pin Plastic Quad Flat Pack (VQ100); Code_JEDEC: MS-026-AED; ComponentLink1Description: ProASIC3 Datasheet; ComponentLink1URL: http://www.actel.com/documents/PA3_nano_DS.pdf; ComponentLink2Description: Package Mechanical Drawings; ComponentLink2URL: http://www.actel.com/documents/PckgMechDrwngs.pdf; ComponentLink3Description: ProASIC3 nano Documents; ComponentLink3URL: http://www.actel.com/products/pa3nano/docs.aspx; ComponentLink4Description: Actel.com Home; ComponentLink4URL: http://www.actel.com/
footprint VQ100_N (Thin QFP, 100-Leads, Body 14x14mm, Pitch 0.5mm, IPC Medium Density)
footprint VQ100_L (Thin QFP, 100-Leads, Body 14x14mm, Pitch 0.5mm, IPC High Density)
footprint VQ100_M (Thin QFP, 100-Leads, Body 14x14mm, Pitch 0.5mm, IPC Low Density)
signal-integrity model A3PN250_VQ100 (ProASIC3 nano)
part A pins: 76 GBA1/IO19RSB0 (io) "Global Input/Output", 77 GBA0/IO18RSB0 (io) "Global Input/Output", 78 GBB1/IO17RSB0 (io) "Global Input/Output", 79 GBB0/IO16RSB0 (io) "Global Input/Output", 80 GBC1/IO15RSB0 (io) "Global Input/Output", 81 GBC0/IO14RSB0 (io) "Global Input/Output", 82 IO13RSB0 (io) "User Input/Output", 83 IO12RSB0 (io) "User Input/Output", 84 IO11RSB0 (io) "User Input/Output", 85 IO10RSB0 (io) "User Input/Output", 86 IO09RSB0 (io) "User Input/Output", 90 IO08RSB0 (io) "User Input/Output", 91 IO07RSB0 (io) "User Input/Output", 92 IO06RSB0 (io) "User Input/Output", 93 GAC1/IO05RSB0 (io) "Global Input/Output", 94 GAC0/IO04RSB0 (io) "Global Input/Output", 95 GAB1/IO03RSB0 (io) "Global Input/Output", 96 GAB0/IO02RSB0 (io) "Global Input/Output", 97 GAA1/IO01RSB0 (io) "Global Input/Output", 98 GAA0/IO00RSB0 (io) "Global Input/Output"
part B pins: 57 GDA1/IO33RSB1 (io) "Global Input/Output", 58 GDC0/IO32RSB1 (io) "Global Input/Output", 59 GDC1/IO31RSB1 (io) "Global Input/Output", 60 IO30RSB1 (io) "User Input/Output", 61 GCB2/IO29RSB1 (io) "Global Input/Output", 62 GCA1/IO27RSB1 (io) "Global Input/Output", 63 GCA0/IO28RSB1 (io) "Global Input/Output", 64 GCC0/IO26RSB1 (io) "Global Input/Output", 65 GCC1/IO25RSB1 (io) "Global Input/Output", 69 IO24RSB1 (io) "User Input/Output", 70 GBC2/IO23RSB1 (io) "Global Input/Output", 71 GBB2/IO22RSB1 (io) "Global Input/Output", 72 IO21RSB1 (io) "User Input/Output", 73 GBA2/IO20RSB1 (io) "Global Input/Output"
part C pins: 26 GEA2/IO50RSB2 (io) "Global Input/Output", 27 GEB2/IO49RSB2 (io) "Global Input/Output", 28 GEC2/IO48RSB2 (io) "Global Input/Output", 29 IO47RSB2 (io) "User Input/Output", 30 IO46RSB2 (io) "User Input/Output", 31 IO45RSB2 (io) "User Input/Output", 32 IO44RSB2 (io) "User Input/Output", 33 IO43RSB2 (io) "User Input/Output", 34 IO42RSB2 (io) "User Input/Output", 35 IO41RSB2 (io) "User Input/Output", 36 IO40RSB2 (io) "User Input/Output", 40 IO39RSB2 (io) "User Input/Output", 41 IO38RSB2 (io) "User Input/Output", 42 IO37RSB2 (io) "User Input/Output", 43 GDC2/IO36RSB2 (io) "Global Input/Output", 44 GDB2/IO35RSB2 (io) "Global Input/Output", 45 GDA2/IO34RSB2 (io) "Global Input/Output"
part D pins: 2 GAA2/IO67RSB3 (io) "Global Input/Output", 3 IO66RSB3 (io) "User Input/Output", 4 GAB2/IO65RSB3 (io) "Global Input/Output", 5 IO64RSB3 (io) "User Input/Output", 6 GAC2/IO63RSB3 (io) "Global Input/Output", 7 IO62RSB3 (io) "User Input/Output", 8 IO61RSB3 (io) "User Input/Output", 10 GFB1/IO60RSB3 (io) "Global Input/Output", 11 GFB0/IO59RSB3 (io) "Global Input/Output", 13 GFA0/IO57RSB3 (io) "Global Input/Output", 15 GFA1/IO58RSB3 (io) "Global Input/Output", 16 GFA2/IO56RSB3 (io) "Global Input/Output", 19 GFC2/IO55RSB3 (io) "Global Input/Output", 20 GEC1/IO54RSB3 (io) "Global Input/Output", 21 GEC0/IO53RSB3 (io) "Global Input/Output", 22 GEA1/IO52RSB3 (io) "Global Input/Output", 23 GEA0/IO51RSB3 (io) "Global Input/Output"
part E pins: 47 TCK (in) "Test Clock", 48 TDI (in) "Test Data Input", 49 TMS (in) "Test Mode Select", 54 TDO (out) "Test Data Output", 55 ~{TRST} (in) "Boundary Scan Reset Pin"
part F pins: 17 VCC (power) "Core Supply Voltage", 18 VCCIB3 (power) "I/O Supply Voltage", 24 VMV3 (power) "I/O Supply Voltage (quiet)", 37 VCC (power) "Core Supply Voltage", 39 VCCIB2 (power) "I/O Supply Voltage", 50 VMV2 (power) "I/O Supply Voltage (quiet)", 52 VPUMP (power) "Programming Supply Voltage", 56 VJTAG (power) "JTAG Supply Voltage", 66 VCCIB1 (power) "I/O Supply Voltage", 68 VCC (power) "Core Supply Voltage", 74 VMV1 (power) "I/O Supply Voltage (quiet)", 87 VCCIB0 (power) "I/O Supply Voltage", 89 VCC (power) "Core Supply Voltage", 100 VMV0 (power) "I/O Supply Voltage (quiet)"
part G pins: 1 GND (power) "Ground", 9 GND (power) "Ground", 25 GNDQ (power) "Ground (Quiet)", 38 GND (power) "Ground", 46 GNDQ (power) "Ground (Quiet)", 51 GND (power) "Ground", 53 NC "No Connect", 67 GND (power) "Ground", 75 GNDQ (power) "Ground (Quiet)", 88 GND (power) "Ground", 99 GNDQ (power) "Ground (Quiet)"
part H pins: 12 VCOMPLF (power) "PLL Ground", 14 VCCPLF (power) "PLL Supply Voltage"
part A text: BANK 0
part B text: BANK 1
part C text: BANK 2
part D text: BANK 3

## A3PN250-2VQ100I
designator U?
ProASIC3 nano Flash FPGA, 68 User IOs, 250K System Gates, Speed 25% above Standard, 100-Pin VQFP, Industrial Grade; Published: 30-Apr-2009; LatestRevisionDate: 26-Feb-2010; LatestRevisionNote: Updated to datasheet version 0.6 Jan-2010.; DatasheetVersion: v0.6, Jan-2010; PackageVersion: ver11.2, Nov-2009; PackageReference: VQ100; Publisher: Altium Limited; PackageDescription: 100-Pin Plastic Quad Flat Pack (VQ100); Code_JEDEC: MS-026-AED; ComponentLink1Description: ProASIC3 Datasheet; ComponentLink1URL: http://www.actel.com/documents/PA3_nano_DS.pdf; ComponentLink2Description: Package Mechanical Drawings; ComponentLink2URL: http://www.actel.com/documents/PckgMechDrwngs.pdf; ComponentLink3Description: ProASIC3 nano Documents; ComponentLink3URL: http://www.actel.com/products/pa3nano/docs.aspx; ComponentLink4Description: Actel.com Home; ComponentLink4URL: http://www.actel.com/
footprint VQ100_N (Thin QFP, 100-Leads, Body 14x14mm, Pitch 0.5mm, IPC Medium Density)
footprint VQ100_L (Thin QFP, 100-Leads, Body 14x14mm, Pitch 0.5mm, IPC High Density)
footprint VQ100_M (Thin QFP, 100-Leads, Body 14x14mm, Pitch 0.5mm, IPC Low Density)
signal-integrity model A3PN250_VQ100 (ProASIC3 nano)
part A pins: 76 GBA1/IO19RSB0 (io) "Global Input/Output", 77 GBA0/IO18RSB0 (io) "Global Input/Output", 78 GBB1/IO17RSB0 (io) "Global Input/Output", 79 GBB0/IO16RSB0 (io) "Global Input/Output", 80 GBC1/IO15RSB0 (io) "Global Input/Output", 81 GBC0/IO14RSB0 (io) "Global Input/Output", 82 IO13RSB0 (io) "User Input/Output", 83 IO12RSB0 (io) "User Input/Output", 84 IO11RSB0 (io) "User Input/Output", 85 IO10RSB0 (io) "User Input/Output", 86 IO09RSB0 (io) "User Input/Output", 90 IO08RSB0 (io) "User Input/Output", 91 IO07RSB0 (io) "User Input/Output", 92 IO06RSB0 (io) "User Input/Output", 93 GAC1/IO05RSB0 (io) "Global Input/Output", 94 GAC0/IO04RSB0 (io) "Global Input/Output", 95 GAB1/IO03RSB0 (io) "Global Input/Output", 96 GAB0/IO02RSB0 (io) "Global Input/Output", 97 GAA1/IO01RSB0 (io) "Global Input/Output", 98 GAA0/IO00RSB0 (io) "Global Input/Output"
part B pins: 57 GDA1/IO33RSB1 (io) "Global Input/Output", 58 GDC0/IO32RSB1 (io) "Global Input/Output", 59 GDC1/IO31RSB1 (io) "Global Input/Output", 60 IO30RSB1 (io) "User Input/Output", 61 GCB2/IO29RSB1 (io) "Global Input/Output", 62 GCA1/IO27RSB1 (io) "Global Input/Output", 63 GCA0/IO28RSB1 (io) "Global Input/Output", 64 GCC0/IO26RSB1 (io) "Global Input/Output", 65 GCC1/IO25RSB1 (io) "Global Input/Output", 69 IO24RSB1 (io) "User Input/Output", 70 GBC2/IO23RSB1 (io) "Global Input/Output", 71 GBB2/IO22RSB1 (io) "Global Input/Output", 72 IO21RSB1 (io) "User Input/Output", 73 GBA2/IO20RSB1 (io) "Global Input/Output"
part C pins: 26 GEA2/IO50RSB2 (io) "Global Input/Output", 27 GEB2/IO49RSB2 (io) "Global Input/Output", 28 GEC2/IO48RSB2 (io) "Global Input/Output", 29 IO47RSB2 (io) "User Input/Output", 30 IO46RSB2 (io) "User Input/Output", 31 IO45RSB2 (io) "User Input/Output", 32 IO44RSB2 (io) "User Input/Output", 33 IO43RSB2 (io) "User Input/Output", 34 IO42RSB2 (io) "User Input/Output", 35 IO41RSB2 (io) "User Input/Output", 36 IO40RSB2 (io) "User Input/Output", 40 IO39RSB2 (io) "User Input/Output", 41 IO38RSB2 (io) "User Input/Output", 42 IO37RSB2 (io) "User Input/Output", 43 GDC2/IO36RSB2 (io) "Global Input/Output", 44 GDB2/IO35RSB2 (io) "Global Input/Output", 45 GDA2/IO34RSB2 (io) "Global Input/Output"
part D pins: 2 GAA2/IO67RSB3 (io) "Global Input/Output", 3 IO66RSB3 (io) "User Input/Output", 4 GAB2/IO65RSB3 (io) "Global Input/Output", 5 IO64RSB3 (io) "User Input/Output", 6 GAC2/IO63RSB3 (io) "Global Input/Output", 7 IO62RSB3 (io) "User Input/Output", 8 IO61RSB3 (io) "User Input/Output", 10 GFB1/IO60RSB3 (io) "Global Input/Output", 11 GFB0/IO59RSB3 (io) "Global Input/Output", 13 GFA0/IO57RSB3 (io) "Global Input/Output", 15 GFA1/IO58RSB3 (io) "Global Input/Output", 16 GFA2/IO56RSB3 (io) "Global Input/Output", 19 GFC2/IO55RSB3 (io) "Global Input/Output", 20 GEC1/IO54RSB3 (io) "Global Input/Output", 21 GEC0/IO53RSB3 (io) "Global Input/Output", 22 GEA1/IO52RSB3 (io) "Global Input/Output", 23 GEA0/IO51RSB3 (io) "Global Input/Output"
part E pins: 47 TCK (in) "Test Clock", 48 TDI (in) "Test Data Input", 49 TMS (in) "Test Mode Select", 54 TDO (out) "Test Data Output", 55 ~{TRST} (in) "Boundary Scan Reset Pin"
part F pins: 17 VCC (power) "Core Supply Voltage", 18 VCCIB3 (power) "I/O Supply Voltage", 24 VMV3 (power) "I/O Supply Voltage (quiet)", 37 VCC (power) "Core Supply Voltage", 39 VCCIB2 (power) "I/O Supply Voltage", 50 VMV2 (power) "I/O Supply Voltage (quiet)", 52 VPUMP (power) "Programming Supply Voltage", 56 VJTAG (power) "JTAG Supply Voltage", 66 VCCIB1 (power) "I/O Supply Voltage", 68 VCC (power) "Core Supply Voltage", 74 VMV1 (power) "I/O Supply Voltage (quiet)", 87 VCCIB0 (power) "I/O Supply Voltage", 89 VCC (power) "Core Supply Voltage", 100 VMV0 (power) "I/O Supply Voltage (quiet)"
part G pins: 1 GND (power) "Ground", 9 GND (power) "Ground", 25 GNDQ (power) "Ground (Quiet)", 38 GND (power) "Ground", 46 GNDQ (power) "Ground (Quiet)", 51 GND (power) "Ground", 53 NC "No Connect", 67 GND (power) "Ground", 75 GNDQ (power) "Ground (Quiet)", 88 GND (power) "Ground", 99 GNDQ (power) "Ground (Quiet)"
part H pins: 12 VCOMPLF (power) "PLL Ground", 14 VCCPLF (power) "PLL Supply Voltage"
part A text: BANK 0
part B text: BANK 1
part C text: BANK 2
part D text: BANK 3

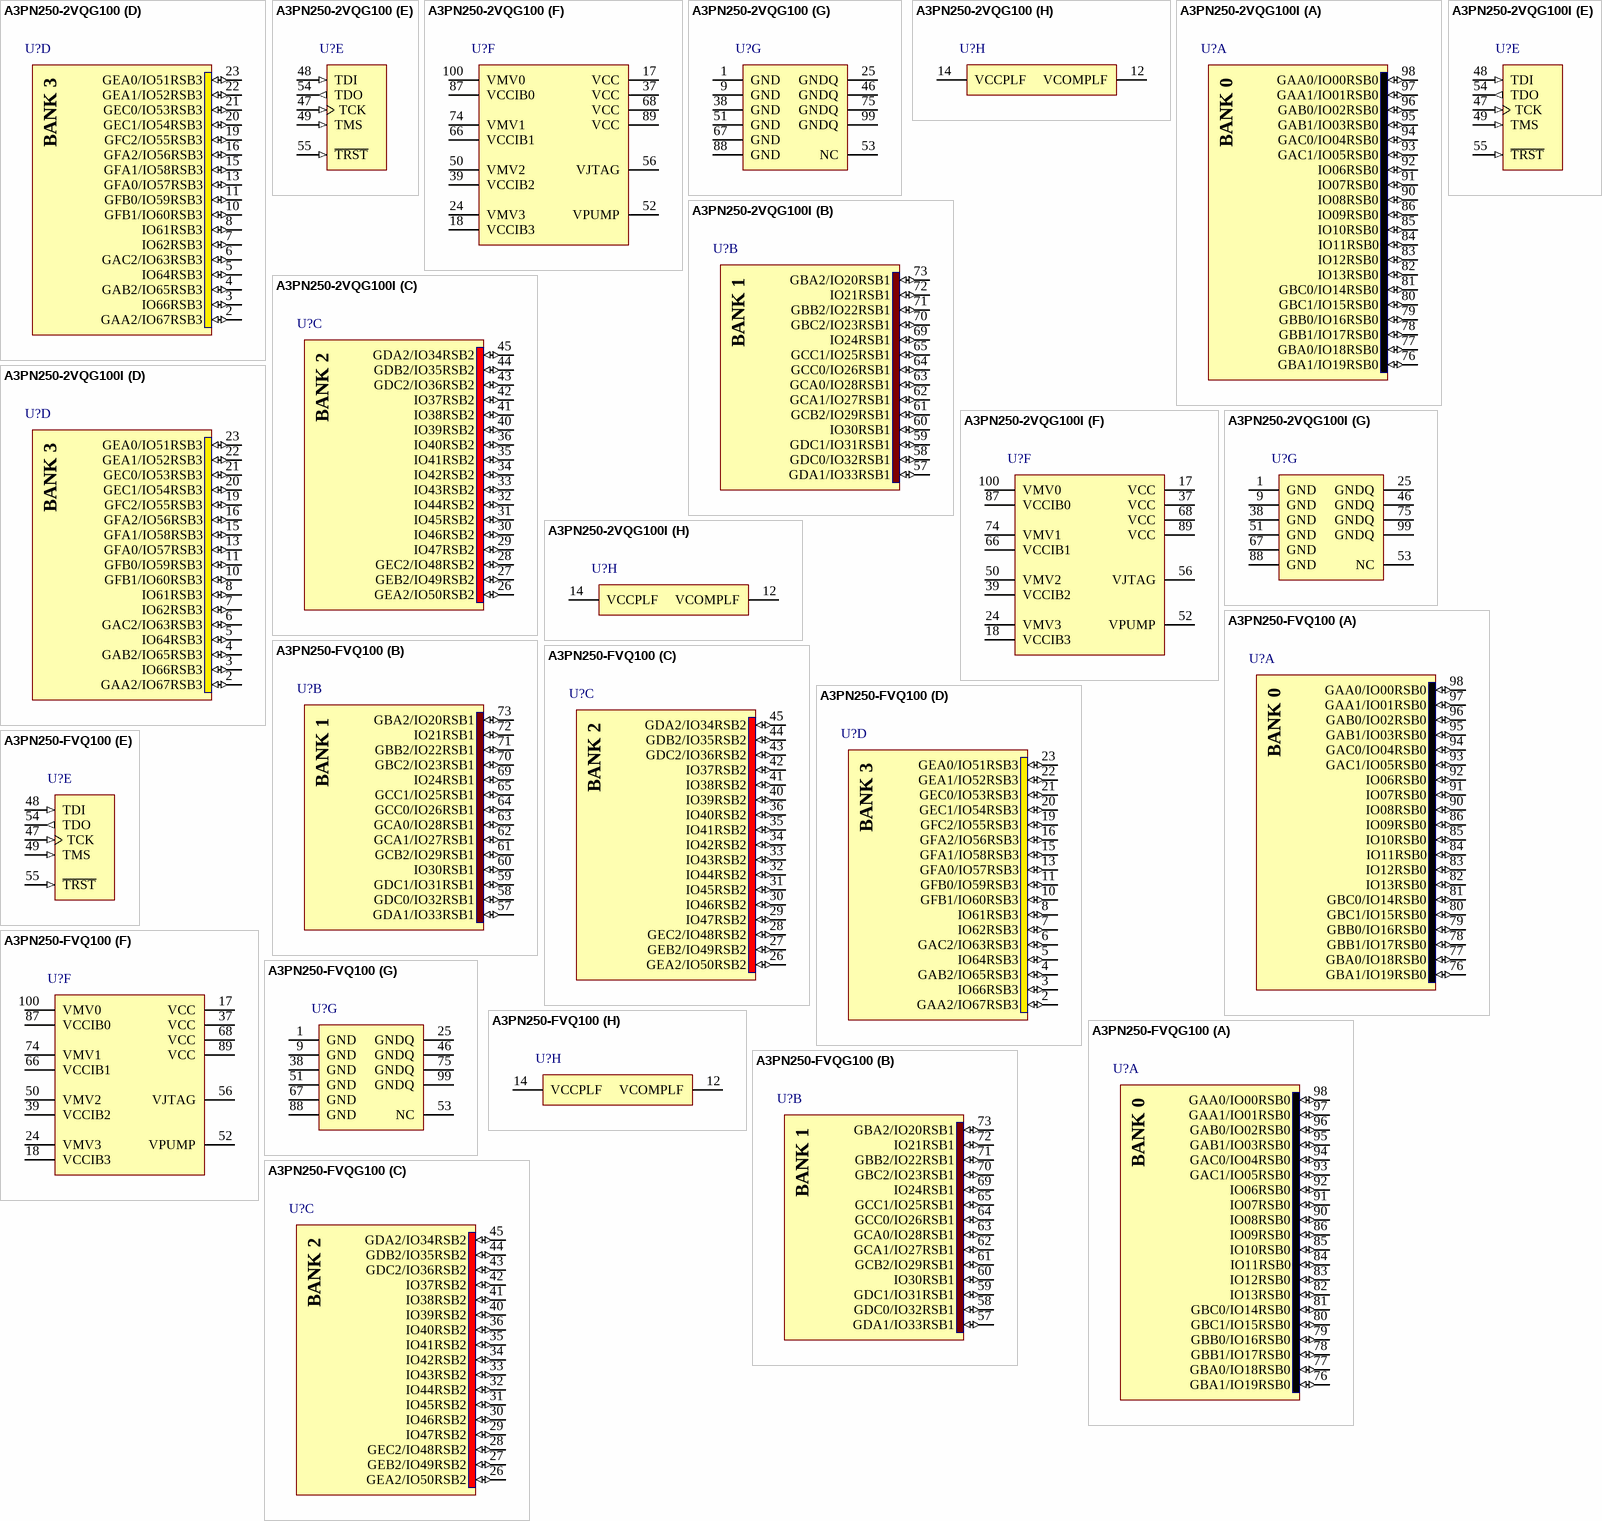
[diagram p42: symbols A3PN250-2VQG100 to A3PN250-FVQG100]

## A3PN250-2VQG100
designator U?
ProASIC3 nano Flash FPGA, 68 User IOs, 250K System Gates, Speed 25% above Standard, 100-Pin VQFP, Pb-Free, Commerical Grade; Published: 30-Apr-2009; LatestRevisionDate: 26-Feb-2010; LatestRevisionNote: Updated to datasheet version 0.6 Jan-2010.; DatasheetVersion: v0.6, Jan-2010; PackageVersion: ver11.2, Nov-2009; PackageReference: VQ100; Publisher: Altium Limited; PackageDescription: 100-Pin Plastic Quad Flat Pack (VQ100); Code_JEDEC: MS-026-AED; ComponentLink1Description: ProASIC3 Datasheet; ComponentLink1URL: http://www.actel.com/documents/PA3_nano_DS.pdf; ComponentLink2Description: Package Mechanical Drawings; ComponentLink2URL: http://www.actel.com/documents/PckgMechDrwngs.pdf; ComponentLink3Description: ProASIC3 nano Documents; ComponentLink3URL: http://www.actel.com/products/pa3nano/docs.aspx; ComponentLink4Description: Actel.com Home; ComponentLink4URL: http://www.actel.com/
footprint VQ100_N (Thin QFP, 100-Leads, Body 14x14mm, Pitch 0.5mm, IPC Medium Density)
footprint VQ100_L (Thin QFP, 100-Leads, Body 14x14mm, Pitch 0.5mm, IPC High Density)
footprint VQ100_M (Thin QFP, 100-Leads, Body 14x14mm, Pitch 0.5mm, IPC Low Density)
signal-integrity model A3PN250_VQ100 (ProASIC3 nano)
part A pins: 76 GBA1/IO19RSB0 (io) "Global Input/Output", 77 GBA0/IO18RSB0 (io) "Global Input/Output", 78 GBB1/IO17RSB0 (io) "Global Input/Output", 79 GBB0/IO16RSB0 (io) "Global Input/Output", 80 GBC1/IO15RSB0 (io) "Global Input/Output", 81 GBC0/IO14RSB0 (io) "Global Input/Output", 82 IO13RSB0 (io) "User Input/Output", 83 IO12RSB0 (io) "User Input/Output", 84 IO11RSB0 (io) "User Input/Output", 85 IO10RSB0 (io) "User Input/Output", 86 IO09RSB0 (io) "User Input/Output", 90 IO08RSB0 (io) "User Input/Output", 91 IO07RSB0 (io) "User Input/Output", 92 IO06RSB0 (io) "User Input/Output", 93 GAC1/IO05RSB0 (io) "Global Input/Output", 94 GAC0/IO04RSB0 (io) "Global Input/Output", 95 GAB1/IO03RSB0 (io) "Global Input/Output", 96 GAB0/IO02RSB0 (io) "Global Input/Output", 97 GAA1/IO01RSB0 (io) "Global Input/Output", 98 GAA0/IO00RSB0 (io) "Global Input/Output"
part B pins: 57 GDA1/IO33RSB1 (io) "Global Input/Output", 58 GDC0/IO32RSB1 (io) "Global Input/Output", 59 GDC1/IO31RSB1 (io) "Global Input/Output", 60 IO30RSB1 (io) "User Input/Output", 61 GCB2/IO29RSB1 (io) "Global Input/Output", 62 GCA1/IO27RSB1 (io) "Global Input/Output", 63 GCA0/IO28RSB1 (io) "Global Input/Output", 64 GCC0/IO26RSB1 (io) "Global Input/Output", 65 GCC1/IO25RSB1 (io) "Global Input/Output", 69 IO24RSB1 (io) "User Input/Output", 70 GBC2/IO23RSB1 (io) "Global Input/Output", 71 GBB2/IO22RSB1 (io) "Global Input/Output", 72 IO21RSB1 (io) "User Input/Output", 73 GBA2/IO20RSB1 (io) "Global Input/Output"
part C pins: 26 GEA2/IO50RSB2 (io) "Global Input/Output", 27 GEB2/IO49RSB2 (io) "Global Input/Output", 28 GEC2/IO48RSB2 (io) "Global Input/Output", 29 IO47RSB2 (io) "User Input/Output", 30 IO46RSB2 (io) "User Input/Output", 31 IO45RSB2 (io) "User Input/Output", 32 IO44RSB2 (io) "User Input/Output", 33 IO43RSB2 (io) "User Input/Output", 34 IO42RSB2 (io) "User Input/Output", 35 IO41RSB2 (io) "User Input/Output", 36 IO40RSB2 (io) "User Input/Output", 40 IO39RSB2 (io) "User Input/Output", 41 IO38RSB2 (io) "User Input/Output", 42 IO37RSB2 (io) "User Input/Output", 43 GDC2/IO36RSB2 (io) "Global Input/Output", 44 GDB2/IO35RSB2 (io) "Global Input/Output", 45 GDA2/IO34RSB2 (io) "Global Input/Output"
part D pins: 2 GAA2/IO67RSB3 (io) "Global Input/Output", 3 IO66RSB3 (io) "User Input/Output", 4 GAB2/IO65RSB3 (io) "Global Input/Output", 5 IO64RSB3 (io) "User Input/Output", 6 GAC2/IO63RSB3 (io) "Global Input/Output", 7 IO62RSB3 (io) "User Input/Output", 8 IO61RSB3 (io) "User Input/Output", 10 GFB1/IO60RSB3 (io) "Global Input/Output", 11 GFB0/IO59RSB3 (io) "Global Input/Output", 13 GFA0/IO57RSB3 (io) "Global Input/Output", 15 GFA1/IO58RSB3 (io) "Global Input/Output", 16 GFA2/IO56RSB3 (io) "Global Input/Output", 19 GFC2/IO55RSB3 (io) "Global Input/Output", 20 GEC1/IO54RSB3 (io) "Global Input/Output", 21 GEC0/IO53RSB3 (io) "Global Input/Output", 22 GEA1/IO52RSB3 (io) "Global Input/Output", 23 GEA0/IO51RSB3 (io) "Global Input/Output"
part E pins: 47 TCK (in) "Test Clock", 48 TDI (in) "Test Data Input", 49 TMS (in) "Test Mode Select", 54 TDO (out) "Test Data Output", 55 ~{TRST} (in) "Boundary Scan Reset Pin"
part F pins: 17 VCC (power) "Core Supply Voltage", 18 VCCIB3 (power) "I/O Supply Voltage", 24 VMV3 (power) "I/O Supply Voltage (quiet)", 37 VCC (power) "Core Supply Voltage", 39 VCCIB2 (power) "I/O Supply Voltage", 50 VMV2 (power) "I/O Supply Voltage (quiet)", 52 VPUMP (power) "Programming Supply Voltage", 56 VJTAG (power) "JTAG Supply Voltage", 66 VCCIB1 (power) "I/O Supply Voltage", 68 VCC (power) "Core Supply Voltage", 74 VMV1 (power) "I/O Supply Voltage (quiet)", 87 VCCIB0 (power) "I/O Supply Voltage", 89 VCC (power) "Core Supply Voltage", 100 VMV0 (power) "I/O Supply Voltage (quiet)"
part G pins: 1 GND (power) "Ground", 9 GND (power) "Ground", 25 GNDQ (power) "Ground (Quiet)", 38 GND (power) "Ground", 46 GNDQ (power) "Ground (Quiet)", 51 GND (power) "Ground", 53 NC "No Connect", 67 GND (power) "Ground", 75 GNDQ (power) "Ground (Quiet)", 88 GND (power) "Ground", 99 GNDQ (power) "Ground (Quiet)"
part H pins: 12 VCOMPLF (power) "PLL Ground", 14 VCCPLF (power) "PLL Supply Voltage"
part A text: BANK 0
part B text: BANK 1
part C text: BANK 2
part D text: BANK 3

## A3PN250-2VQG100I
designator U?
ProASIC3 nano Flash FPGA, 68 User IOs, 250K System Gates, Speed 25% above Standard, 100-Pin VQFP, Pb-Free, Industrial Grade; Published: 30-Apr-2009; LatestRevisionDate: 26-Feb-2010; LatestRevisionNote: Updated to datasheet version 0.6 Jan-2010.; DatasheetVersion: v0.6, Jan-2010; PackageVersion: ver11.2, Nov-2009; PackageReference: VQ100; Publisher: Altium Limited; PackageDescription: 100-Pin Plastic Quad Flat Pack (VQ100); Code_JEDEC: MS-026-AED; ComponentLink1Description: ProASIC3 Datasheet; ComponentLink1URL: http://www.actel.com/documents/PA3_nano_DS.pdf; ComponentLink2Description: Package Mechanical Drawings; ComponentLink2URL: http://www.actel.com/documents/PckgMechDrwngs.pdf; ComponentLink3Description: ProASIC3 nano Documents; ComponentLink3URL: http://www.actel.com/products/pa3nano/docs.aspx; ComponentLink4Description: Actel.com Home; ComponentLink4URL: http://www.actel.com/
footprint VQ100_N (Thin QFP, 100-Leads, Body 14x14mm, Pitch 0.5mm, IPC Medium Density)
footprint VQ100_L (Thin QFP, 100-Leads, Body 14x14mm, Pitch 0.5mm, IPC High Density)
footprint VQ100_M (Thin QFP, 100-Leads, Body 14x14mm, Pitch 0.5mm, IPC Low Density)
signal-integrity model A3PN250_VQ100 (ProASIC3 nano)
part A pins: 76 GBA1/IO19RSB0 (io) "Global Input/Output", 77 GBA0/IO18RSB0 (io) "Global Input/Output", 78 GBB1/IO17RSB0 (io) "Global Input/Output", 79 GBB0/IO16RSB0 (io) "Global Input/Output", 80 GBC1/IO15RSB0 (io) "Global Input/Output", 81 GBC0/IO14RSB0 (io) "Global Input/Output", 82 IO13RSB0 (io) "User Input/Output", 83 IO12RSB0 (io) "User Input/Output", 84 IO11RSB0 (io) "User Input/Output", 85 IO10RSB0 (io) "User Input/Output", 86 IO09RSB0 (io) "User Input/Output", 90 IO08RSB0 (io) "User Input/Output", 91 IO07RSB0 (io) "User Input/Output", 92 IO06RSB0 (io) "User Input/Output", 93 GAC1/IO05RSB0 (io) "Global Input/Output", 94 GAC0/IO04RSB0 (io) "Global Input/Output", 95 GAB1/IO03RSB0 (io) "Global Input/Output", 96 GAB0/IO02RSB0 (io) "Global Input/Output", 97 GAA1/IO01RSB0 (io) "Global Input/Output", 98 GAA0/IO00RSB0 (io) "Global Input/Output"
part B pins: 57 GDA1/IO33RSB1 (io) "Global Input/Output", 58 GDC0/IO32RSB1 (io) "Global Input/Output", 59 GDC1/IO31RSB1 (io) "Global Input/Output", 60 IO30RSB1 (io) "User Input/Output", 61 GCB2/IO29RSB1 (io) "Global Input/Output", 62 GCA1/IO27RSB1 (io) "Global Input/Output", 63 GCA0/IO28RSB1 (io) "Global Input/Output", 64 GCC0/IO26RSB1 (io) "Global Input/Output", 65 GCC1/IO25RSB1 (io) "Global Input/Output", 69 IO24RSB1 (io) "User Input/Output", 70 GBC2/IO23RSB1 (io) "Global Input/Output", 71 GBB2/IO22RSB1 (io) "Global Input/Output", 72 IO21RSB1 (io) "User Input/Output", 73 GBA2/IO20RSB1 (io) "Global Input/Output"
part C pins: 26 GEA2/IO50RSB2 (io) "Global Input/Output", 27 GEB2/IO49RSB2 (io) "Global Input/Output", 28 GEC2/IO48RSB2 (io) "Global Input/Output", 29 IO47RSB2 (io) "User Input/Output", 30 IO46RSB2 (io) "User Input/Output", 31 IO45RSB2 (io) "User Input/Output", 32 IO44RSB2 (io) "User Input/Output", 33 IO43RSB2 (io) "User Input/Output", 34 IO42RSB2 (io) "User Input/Output", 35 IO41RSB2 (io) "User Input/Output", 36 IO40RSB2 (io) "User Input/Output", 40 IO39RSB2 (io) "User Input/Output", 41 IO38RSB2 (io) "User Input/Output", 42 IO37RSB2 (io) "User Input/Output", 43 GDC2/IO36RSB2 (io) "Global Input/Output", 44 GDB2/IO35RSB2 (io) "Global Input/Output", 45 GDA2/IO34RSB2 (io) "Global Input/Output"
part D pins: 2 GAA2/IO67RSB3 (io) "Global Input/Output", 3 IO66RSB3 (io) "User Input/Output", 4 GAB2/IO65RSB3 (io) "Global Input/Output", 5 IO64RSB3 (io) "User Input/Output", 6 GAC2/IO63RSB3 (io) "Global Input/Output", 7 IO62RSB3 (io) "User Input/Output", 8 IO61RSB3 (io) "User Input/Output", 10 GFB1/IO60RSB3 (io) "Global Input/Output", 11 GFB0/IO59RSB3 (io) "Global Input/Output", 13 GFA0/IO57RSB3 (io) "Global Input/Output", 15 GFA1/IO58RSB3 (io) "Global Input/Output", 16 GFA2/IO56RSB3 (io) "Global Input/Output", 19 GFC2/IO55RSB3 (io) "Global Input/Output", 20 GEC1/IO54RSB3 (io) "Global Input/Output", 21 GEC0/IO53RSB3 (io) "Global Input/Output", 22 GEA1/IO52RSB3 (io) "Global Input/Output", 23 GEA0/IO51RSB3 (io) "Global Input/Output"
part E pins: 47 TCK (in) "Test Clock", 48 TDI (in) "Test Data Input", 49 TMS (in) "Test Mode Select", 54 TDO (out) "Test Data Output", 55 ~{TRST} (in) "Boundary Scan Reset Pin"
part F pins: 17 VCC (power) "Core Supply Voltage", 18 VCCIB3 (power) "I/O Supply Voltage", 24 VMV3 (power) "I/O Supply Voltage (quiet)", 37 VCC (power) "Core Supply Voltage", 39 VCCIB2 (power) "I/O Supply Voltage", 50 VMV2 (power) "I/O Supply Voltage (quiet)", 52 VPUMP (power) "Programming Supply Voltage", 56 VJTAG (power) "JTAG Supply Voltage", 66 VCCIB1 (power) "I/O Supply Voltage", 68 VCC (power) "Core Supply Voltage", 74 VMV1 (power) "I/O Supply Voltage (quiet)", 87 VCCIB0 (power) "I/O Supply Voltage", 89 VCC (power) "Core Supply Voltage", 100 VMV0 (power) "I/O Supply Voltage (quiet)"
part G pins: 1 GND (power) "Ground", 9 GND (power) "Ground", 25 GNDQ (power) "Ground (Quiet)", 38 GND (power) "Ground", 46 GNDQ (power) "Ground (Quiet)", 51 GND (power) "Ground", 53 NC "No Connect", 67 GND (power) "Ground", 75 GNDQ (power) "Ground (Quiet)", 88 GND (power) "Ground", 99 GNDQ (power) "Ground (Quiet)"
part H pins: 12 VCOMPLF (power) "PLL Ground", 14 VCCPLF (power) "PLL Supply Voltage"
part A text: BANK 0
part B text: BANK 1
part C text: BANK 2
part D text: BANK 3